# Altium footprint library CellVoltageControl.PcbLib: 22 footprints (part 1 of 2)
Each footprint in its own frame and in the unit in brackets; x right, y up, seen from the top. Pads: shape width x height; smd on the part's side, far side on the other; paste and mask are expansions set on the pad; w line width, h text height; cw(c..) or ccw(c..) is an arc to the next point about the centre after c.
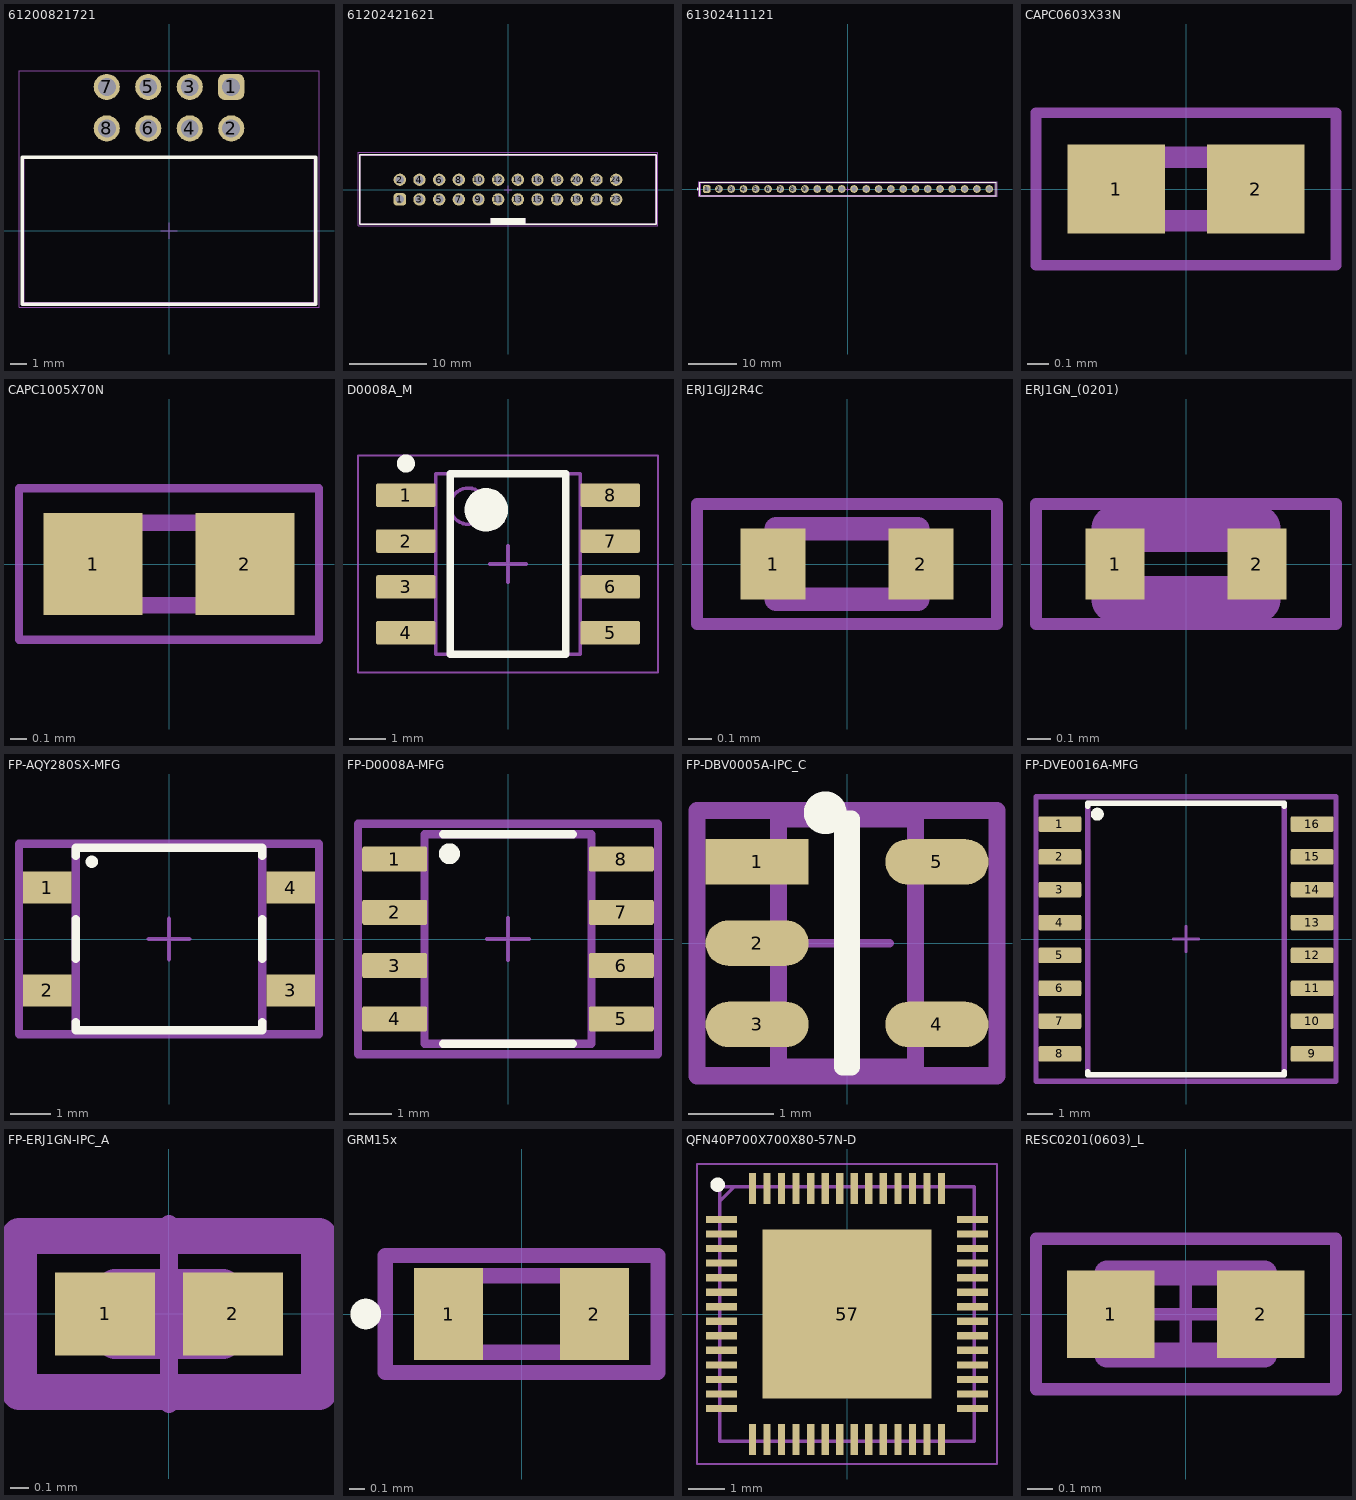
[diagram p0: the footprints below, top view; thin cyan lines are the x and y axes]

## 61200821721 [mm] "8 pins, right angled, gold plating"
height 9.1
pads (8):
  rrect50% 1.6x1.6 hole 1.1: 1(3.81,8.805)
  round 1.6 hole 1.1: 2(3.81,6.265) 3(1.27,8.805) 4(1.27,6.265) 5(-1.27,8.805) 6(-1.27,6.265) 7(-3.81,8.805) 8(-3.81,6.265)
Top Overlay:
  lines w0.2: -8.985,-4.5 8.985,-4.5 8.985,4.5 -8.985,4.5 -8.985,-4.5
Top 3D Body:
  lines w0.1: -8.91,-4.425 -8.91,4.425 8.91,4.425 8.91,-4.425 -8.91,-4.425
Top Courtyard:
  lines w0.05: -0.5,0 0.5,0 ; 0,-0.5 0,0.5 ; -9.185,-4.7 -9.185,9.805 9.185,9.805 9.185,-4.7 -9.185,-4.7
Top Designator:
  text ".Designator" at -7.498,-0.5 h1.5
Top Component Outline:
  lines w0.1: -8.91,-4.425 8.91,-4.425 8.91,4.425 -8.91,4.425 -8.91,-4.425
3D body "61200821721.stp": height 9.23, standoff -2.88, extent -8.91,-4.425 8.91,9.125

## 61202421621 [mm] "24 pins, straight, gold plating"
height 9.1
pads (24):
  rrect50% 1.6x1.6 hole 1.1: 1(-13.97,-1.27)
  round 1.6 hole 1.1: 2(-13.97,1.27) 3(-11.43,-1.27) 4(-11.43,1.27) 5(-8.89,-1.27) 6(-8.89,1.27) 7(-6.35,-1.27) 8(-6.35,1.27) 9(-3.81,-1.27) 10(-3.81,1.27) 11(-1.27,-1.27) 12(-1.27,1.27) 13(1.27,-1.27) 14(1.27,1.27) 15(3.81,-1.27) 16(3.81,1.27) 17(6.35,-1.27) 18(6.35,1.27) 19(8.89,-1.27) 20(8.89,1.27) 21(11.43,-1.27) 22(11.43,1.27) 23(13.97,-1.27) 24(13.97,1.27)
Top Overlay:
  rectangle: -2.25,-4.5 2.25,-3.7
  lines w0.2: -19.17,-4.5 19.17,-4.5 19.17,4.5 -19.17,4.5 -19.17,-4.5
Top 3D Body:
  rectangle: -2.25,-4.425 2.25,-3.7
  lines w0.1: -19.07,-4.425 19.07,-4.425 19.07,4.425 -19.07,4.425 -19.07,-4.425
Top Courtyard:
  lines w0.05: -0.5,0 0.5,0 ; 0,-0.5 0,0.5 ; -19.37,-4.7 19.37,-4.7 19.37,4.85 -19.37,4.85 -19.37,-4.7
Top Designator:
  text ".Designator" at -7.498,-0.5 h1.5
Top Component Outline:
  rectangle: -2.25,-4.425 2.25,-3.7
  lines w0.1: -19.07,-4.425 -19.07,4.425 19.07,4.425 19.07,-4.425 -19.07,-4.425
3D body "61202421621.stp": height 9.13, standoff -2.98, extent -19.07,-4.425 19.07,4.75

## 61302411121 [mm] "Pin Header, pitch 2.54 mm, THT, Vertical, single row, 24p"
height 8.54
pads (24):
  rrect50% 1.6x1.6 hole 1.1: 1(-29.21,0)
  round 1.6 hole 1.1: 2(-26.67,0) 3(-24.13,0) 4(-21.59,0) 5(-19.05,0) 6(-16.51,0) 7(-13.97,0) 8(-11.43,0) 9(-8.89,0) 10(-6.35,0) 11(-3.81,0) 12(-1.27,0) 13(1.27,0) 14(3.81,0) 15(6.35,0) 16(8.89,0) 17(11.43,0) 18(13.97,0) 19(16.51,0) 20(19.05,0) 21(21.59,0) 22(24.13,0) 23(26.67,0) 24(29.21,0)
Top Overlay:
  circle w0.25: c-31.08,0 r0.125
  lines w0.2: -30.63,-1.345 -30.63,1.345 30.63,1.345 30.63,-1.345 -30.63,-1.345
Top Courtyard:
  lines w0.05: -30.83,-1.545 30.83,-1.545 30.83,1.545 -30.83,1.545 -30.83,-1.545
Top Designator:
  text ".Designator" at -7.498,-0.5 h1.5
Top Component Outline:
  lines w0.1: -30.48,-1.27 -30.48,1.27 30.48,1.27 30.48,-1.27 -30.48,-1.27
Top Component Center:
  lines w0.05: -0.5,0 0.5,0 ; 0,-0.5 0,0.5
3D body "61302411121.stp": height 8.57, standoff -2.97, extent -30.48,-1.27 30.48,1.27

## CAPC0603X33N [mm]
height 2.95
pads (2):
  rect 0.46x0.42 smd: 1(-0.33,0) 2(0.33,0)
Mechanical 13:
  lines w0.1: -0.3,-0.15 0.3,-0.15 0.3,0.15 -0.3,0.15 -0.3,-0.15
Mechanical 15:
  lines w0.05: -0.71,-0.36 0.71,-0.36 0.71,0.36 -0.71,0.36 -0.71,-0.36
3D body "GRM033C81E104KE14D.stp": height 0.33, standoff 0, extent -0.3,-0.15 0.3,0.15

## CAPC1005X70N [mm]
height 2.95
pads (2):
  rect 0.6x0.62 smd: 1(-0.46,0) 2(0.46,0)
Mechanical 13:
  lines w0.1: -0.5,-0.25 0.5,-0.25 0.5,0.25 -0.5,0.25 -0.5,-0.25
Mechanical 15:
  lines w0.05: -0.91,-0.46 0.91,-0.46 0.91,0.46 -0.91,0.46 -0.91,-0.46
3D body "GRM155F51E104ZA01D.stp": height 0.5, standoff 0, extent -0.5,-0.25 0.5,0.25

## D0008A_M [mm] "SOIC, 8-Leads, Body 5x4mm, Pitch 1.27mm, IPC Low Density"
height 1.75
pads (8):
  rrect15% 1.65x0.65 smd: 1(-2.825,1.905) 2(-2.825,0.635) 3(-2.825,-0.635) 4(-2.825,-1.905) 5(2.825,-1.905) 6(2.825,-0.635) 7(2.825,0.635) 8(2.825,1.905)
Top Overlay:
  circle w0.6: c-0.6,1.5 r0.3
  circle w0.25: c-2.825,2.78 r0.125
  lines w0.2: -1.6,-2.5 1.6,-2.5 1.6,2.5 -1.6,2.5 -1.6,-2.5
Mechanical 1:
  text ".Designator" at -1.397,-0.254 h0.6
Mechanical 13:
  circle w0.1: c-1.1,1.6 r0.5
  lines w0.1: -2,-2.5 2,-2.5 2,2.5 -2,2.5 -2,-2.5
Mechanical 15:
  lines w0.05: -4.15,-3 4.15,-3 4.15,3 -4.15,3 -4.15,-3
  lines w0.1: -0.5,0 0.5,0 ; 0,-0.5 0,0.5
3D body "SOIC-8akaD0008AakaM08A.stp": height 1.63, standoff 0, extent -3,-2.45 3,2.45

## ERJ1GJJ2R4C [mm]
height 2.95
pads (2):
  rect 0.275x0.3 smd: 1(-0.313,0) 2(0.313,0)
Mechanical 13:
  lines w0.1: -0.3,-0.15 0.3,-0.15 0.3,0.15 -0.3,0.15 -0.3,-0.15
Mechanical 15:
  lines w0.05: -0.635,-0.254 0.635,-0.254 0.635,0.254 -0.635,0.254 -0.635,-0.254
3D body "ERJ-1GJF1502C.stp": height 0.23, standoff 0, extent -0.3,-0.15 0.3,0.15

## ERJ1GN_(0201) [mm]
height 2.95
pads (2):
  rect 0.25x0.3 smd: 1(-0.3,0) 2(0.3,0)
Mechanical 13:
  lines w0.2: -0.3,-0.15 0.3,-0.15 0.3,0.15 -0.3,0.15 -0.3,-0.15
Mechanical 15:
  lines w0.05: -0.635,-0.254 0.635,-0.254 0.635,0.254 -0.635,0.254 -0.635,-0.254
3D body "ERJ-1GNF1001C.stp": height 0.23, standoff 0, extent -0.3,-0.15 0.3,0.15

## FP-AQY280SX-MFG [mm]
height 2.95
pads (4):
  rect 1.2x0.8 smd paste+0 mask+0: 1(-3,1.27) 2(-3,-1.27) 3(3,-1.27) 4(3,1.27)
Top Overlay:
  circle w0.152: c-1.905,1.905 r0.076
  lines w0.2: -2.3,-2.045 -2.3,-2.25 2.3,-2.25 2.3,-2.045 ; -2.3,-0.495 -2.3,0.495 ; -2.3,2.045 -2.3,2.25 2.3,2.25 2.3,2.045 ; 2.3,-0.495 2.3,0.495
Top 3D Body:
  lines w0.2: -2.3,-2.25 2.3,-2.25 2.3,2.25 -2.3,2.25 -2.3,-2.25
Top Courtyard:
  lines w0.2: -3.7,-2.35 3.7,-2.35 3.7,2.35 -3.7,2.35 -3.7,-2.35
Top Assembly:
  lines w0.2: -3.7,-2.35 -3.7,2.35 3.7,2.35 3.7,-2.35 -3.7,-2.35
  text ".Designator" at 0,0.188 h1
Top Component Center:
  lines w0.1: -0.5,0 0.5,0 ; 0,-0.5 0,0.5
3D body "Relay_Panasonic_AQY280SX_eec.STEP": height 0.25, standoff 0, extent -3.7,-2.35 3.7,2.35

## FP-D0008A-MFG [mm]
height 2.95
pads (8):
  rrect17% 1.55x0.6 smd paste+0 mask+0: 1(-2.7,1.905) 2(-2.7,0.635) 3(-2.7,-0.635) 4(-2.7,-1.905) 5(2.7,-1.905) 6(2.7,-0.635) 7(2.7,0.635) 8(2.7,1.905)
Top Overlay:
  circle w0.25: c-1.397,2.032 r0.125
  lines w0.2: -1.55,-2.5 1.55,-2.5 ; -1.55,2.5 1.55,2.5
Top 3D Body:
  lines w0.2: -1.99,-2.5 1.99,-2.5 1.99,2.5 -1.99,2.5 -1.99,-2.5
Top Courtyard:
  lines w0.2: -3.575,-2.75 3.575,-2.75 3.575,2.75 -3.575,2.75 -3.575,-2.75
Top Assembly:
  lines w0.2: -3.575,-2.75 3.575,-2.75 3.575,2.75 -3.575,2.75 -3.575,-2.75
  text ".Designator" at 0,0.188 h1
Top Component Center:
  lines w0.1: -0.5,0 0.5,0 ; 0,-0.5 0,0.5
3D body "IC_Texas_Instruments_ISO1540DR_eec.STEP": height 0.25, standoff 0, extent -3.575,-2.75 3.575,2.75

## FP-DBV0005A-IPC_C [mm]
height 2.95
pads (5):
  rect 1.205x0.532 smd paste+0 mask+0: 1(-1.05,0.95)
  rrect100% 1.205x0.532 smd paste+0 mask+0: 2(-1.05,0) 3(-1.05,-0.95) 4(1.05,-0.95) 5(1.05,0.95)
Top Overlay:
  circle w0.25: c-0.254,1.524 r0.125
  lines w0.2: -0.052,-1.45 -0.052,1.45 0.052,1.45 0.052,-1.45 -0.052,-1.45
Top 3D Body:
  lines w0.2: -0.8,-1.45 0.8,-1.45 0.8,1.45 -0.8,1.45 -0.8,-1.45
Top Courtyard:
  lines w0.2: -1.753,-1.55 1.753,-1.55 1.753,1.55 -1.753,1.55 -1.753,-1.55
Top Assembly:
  lines w0.2: -1.753,-1.55 1.753,-1.55 1.753,1.55 -1.753,1.55 -1.753,-1.55
  text ".Designator" at 0,0.188 h1
Top Component Center:
  lines w0.1: -0.5,0 0.5,0 ; 0,-0.5 0,0.5
3D body "IC_Texas_Instruments_SN74AHC1G00DBVR_eec.STEP": height 0.25, standoff 0, extent -1.753,-1.55 1.753,1.55

## FP-DVE0016A-MFG [mm]
height 2.95
pads (16):
  rrect17% 1.65x0.6 smd paste+0 mask+0: 1(-4.875,4.445) 2(-4.875,3.175) 3(-4.875,1.905) 4(-4.875,0.635) 5(-4.875,-0.635) 6(-4.875,-1.905) 7(-4.875,-3.175) 8(-4.875,-4.445) 9(4.875,-4.445) 10(4.875,-3.175) 11(4.875,-1.905) 12(4.875,-0.635) 13(4.875,0.635) 14(4.875,1.905) 15(4.875,3.175) 16(4.875,4.445)
Top Overlay:
  circle w0.25: c-3.429,4.826 r0.125
  lines w0.2: -3.8,-5.12 -3.8,-5.25 3.8,-5.25 3.8,-5.12 ; -3.8,5.12 -3.8,5.25 3.8,5.25 3.8,5.12
Top 3D Body:
  lines w0.2: -3.8,-5.25 3.8,-5.25 3.8,5.25 -3.8,5.25 -3.8,-5.25
Top Courtyard:
  lines w0.2: -5.8,-5.5 5.8,-5.5 5.8,5.5 -5.8,5.5 -5.8,-5.5
Top Assembly:
  lines w0.2: -5.8,-5.5 5.8,-5.5 5.8,5.5 -5.8,5.5 -5.8,-5.5
  text ".Designator" at 0,0.188 h1
Top Component Center:
  lines w0.1: -0.5,0 0.5,0 ; 0,-0.5 0,0.5
3D body "IC_Texas_Instruments_UCC12040DVER_eec.STEP": height 0.25, standoff 0, extent -5.8,-5.5 5.8,5.5

## FP-ERJ1GN-IPC_A [mm]
height 2.95
pads (2):
  rect 0.554x0.463 smd paste+0 mask+0: 1(-0.354,0) 2(0.354,0)
Top 3D Body:
  lines w0.2: -0.3,-0.15 0.3,-0.15 0.3,0.15 -0.3,0.15 -0.3,-0.15
Top Courtyard:
  lines w0.2: -0.831,-0.431 0.831,-0.431 0.831,0.431 -0.831,0.431 -0.831,-0.431
Top Assembly:
  lines w0.2: -0.831,-0.431 0.831,-0.431 0.831,0.431 -0.831,0.431 -0.831,-0.431
  text ".Designator" at 0,-0.001 h1
Top Component Center:
  lines w0.1: -0.5,0 0.5,0 -0.5,0 ; 0,-0.5 0,0.5 0,-0.5
3D body "Res_Panasonic_Electronic_Components_ERJ-1GNF4872C_eec.STEP": height 0.25, standoff 0, extent -0.831,-0.431 0.831,0.431

## GRM15x [mm]
height 2.95
pads (2):
  rect 0.45x0.6 smd: 1(-0.475,0) 2(0.475,0)
Top Overlay:
  lines w0.1: -1.016,-0.05 ccw(c-1.016,0) -1.016,0.05 ccw(c-1.016,0) -1.016,-0.05
Mechanical 13:
  lines w0.1: -0.5,-0.25 -0.5,0.25 0.5,0.25 0.5,-0.25 -0.5,-0.25
Mechanical 15:
  lines w0.1: -0.889,-0.381 -0.889,0.381 0.889,0.381 0.889,-0.381 -0.889,-0.381
3D body "GRM155R61H105KE05J.stp": height 0.5, standoff 0, extent -0.5,-0.28 0.5,0.27

## QFN40P700X700X80-57N-D [mm]
height 2.95
pads (57):
  rect 0.85x0.2 smd: 1(-3.45,2.6) 2(-3.45,2.2) 3(-3.45,1.8) 4(-3.45,1.4) 5(-3.45,1) 6(-3.45,0.6) 7(-3.45,0.2) 8(-3.45,-0.2) 9(-3.45,-0.6) 10(-3.45,-1) 11(-3.45,-1.4) 12(-3.45,-1.8) 13(-3.45,-2.2) 14(-3.45,-2.6) 29(3.45,-2.6) 30(3.45,-2.2) 31(3.45,-1.8) 32(3.45,-1.4) 33(3.45,-1) 34(3.45,-0.6) 35(3.45,-0.2) 36(3.45,0.2) 37(3.45,0.6) 38(3.45,1) 39(3.45,1.4) 40(3.45,1.8) 41(3.45,2.2) 42(3.45,2.6)
  rect 0.2x0.85 smd: 15(-2.6,-3.45) 16(-2.2,-3.45) 17(-1.8,-3.45) 18(-1.4,-3.45) 19(-1,-3.45) 20(-0.6,-3.45) 21(-0.2,-3.45) 22(0.2,-3.45) 23(0.6,-3.45) 24(1,-3.45) 25(1.4,-3.45) 26(1.8,-3.45) 27(2.2,-3.45) 28(2.6,-3.45) 43(2.6,3.45) 44(2.2,3.45) 45(1.8,3.45) 46(1.4,3.45) 47(1,3.45) 48(0.6,3.45) 49(0.2,3.45) 50(-0.2,3.45) 51(-0.6,3.45) 52(-1,3.45) 53(-1.4,3.45) 54(-1.8,3.45) 55(-2.2,3.45) 56(-2.6,3.45)
  rect 4.65x4.65 smd: 57(0,0)
Top Overlay:
  circle w0.2: c-3.556,3.556 r0.1
Mechanical 13:
  lines w0.1: -3.5,3.1 -3.1,3.5 ; -3.5,-3.5 3.5,-3.5 3.5,3.5 -3.5,3.5 -3.5,-3.5
Mechanical 15:
  lines w0.05: -4.125,-4.125 4.125,-4.125 4.125,4.125 -4.125,4.125 -4.125,-4.125
3D body "PI4IOE5V96248ZLEX.stp": height 0.8, standoff 0, extent -3.55,-3.55 3.55,3.55

## RESC0201(0603)_L [mm] "Chip Resistor, Body 0.6x0.3mm, IPC High Density"
height 0.3
pads (2):
  rect 0.35x0.35 smd: 1(-0.3,0) 2(0.3,0)
Mechanical 13:
  lines w0.1: -0.315,-0.165 -0.315,0.165 0.315,0.165 0.315,-0.165 -0.315,-0.165
Mechanical 15:
  lines w0.05: -0.165,0 0.165,0 ; 0,-0.165 0,0.165 ; -0.6,-0.3 -0.6,0.3 0.6,0.3 0.6,-0.3 -0.6,-0.3
3D body: height 0.3, standoff 0, extent -0.314,-0.164 -0.17,0.165
3D body: height 0.3, standoff 0, extent -0.17,-0.164 0.171,0.165
3D body: height 0.3, standoff 0, extent 0.171,-0.164 0.315,0.165